# Altium schematic symbol library WE-GDT.SchLib: 9 symbols
Pins are listed as number, name and electrical type; pins without a type are passive.

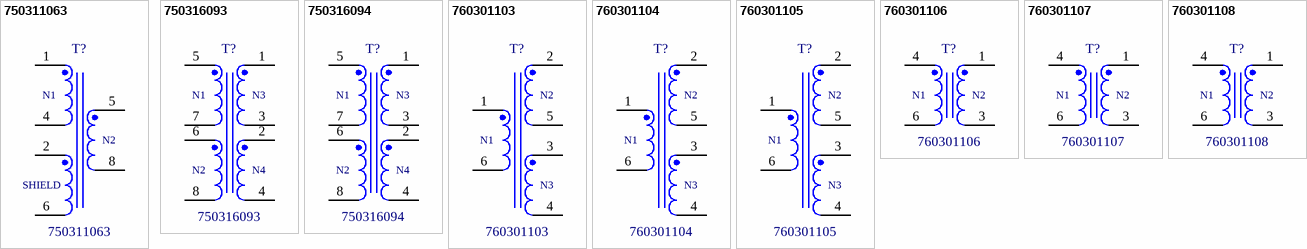
[diagram p0: symbols 750311063 to 760301108]

## 750311063
designator T?
WE-GDT SMT Gate-Drive-Transformer, ER9.5/5, 600μH, 1:1; Manufacturer: Wurth Elektronik; Insulation Test Voltage: 2000V (DC); Interwinding Capacitance: 12pF; Leakage Inductance: 1.4μH; Number of Windings: 2; Manufacturer Part Number: 750311063; Category: Gate Drive Transformers; Match Code: WE-GDT; ComponentLink1Description: Website Link; ComponentLink1URL: https://www.we-online.com/redexpert/article/750311063?ad; ComponentLink2Description: Datasheet Link; ComponentLink2URL: https://www.we-online.com/redexpert/spec/750311063?ad; Mount: Surface Mount; Min Operating Temperature: -40°C; Max Operating Temperature: 125°C; Packaging: Tape and Reel; Case/Size Code: ER9.5/5; Length: 12.07mm; Width: 10mm; Height: 5.97mm; Inductance: 600μH; Turns Ratio: 1:1
footprint WE-GDT_ER9.5/5
pins: 1, 2, 4, 5, 6, 8
text: N1; N2; SHIELD

## 750316093
designator T?
WE-GDT SMT Gate-Drive-Transformer, 1210, 1710μH, 1:1:2:2; Manufacturer: Wurth Elektronik; Case/Size Code: 1210; Insulation Test Voltage: 1500V (AC); Interwinding Capacitance: 100pF; Leakage Inductance: 1.5μH; Number of Windings: 4; Voltage-µSecond: 70μVs; Manufacturer Part Number: 750316093; Category: Gate Drive Transformers; Match Code: WE-GDT; ComponentLink1Description: Website Link; ComponentLink1URL: https://www.we-online.com/redexpert/article/750316093?ad; ComponentLink2Description: Datasheet Link; ComponentLink2URL: https://www.we-online.com/redexpert/spec/750316093?ad; Mount: Surface Mount; Min Operating Temperature: -40°C; Max Operating Temperature: 125°C; Packaging: Tape and Reel; Length: 12.98mm; Width: 10.26mm; Height: 5.64mm; Inductance: 1710μH; Turns Ratio: 1:1:2:2
footprint WE-GDT_1210
pins: 1, 2, 3, 4, 5, 6, 7, 8
text: N1; N3; N2; N4

## 750316094
designator T?
WE-GDT SMT Gate-Drive-Transformer, 1210, 261μH, 1:1:5:5; Manufacturer: Wurth Elektronik; Case/Size Code: 1210; Insulation Test Voltage: 1500V (AC); Interwinding Capacitance: 90pF; Leakage Inductance: 0.4μH; Number of Windings: 4; Voltage-µSecond: 28μVs; Manufacturer Part Number: 750316094; Category: Gate Drive Transformers; Match Code: WE-GDT; ComponentLink1Description: Website Link; ComponentLink1URL: https://www.we-online.com/redexpert/article/750316094?ad; ComponentLink2Description: Datasheet Link; ComponentLink2URL: https://www.we-online.com/redexpert/spec/750316094?ad; Mount: Surface Mount; Min Operating Temperature: -40°C; Max Operating Temperature: 125°C; Packaging: Tape and Reel; Length: 12.98mm; Width: 10.26mm; Height: 5.64mm; Inductance: 261μH; Turns Ratio: 1:1:5:5
footprint WE-GDT_1210
pins: 1, 2, 3, 4, 5, 6, 7, 8
text: N1; N3; N2; N4

## 760301103
designator T?
WE-GDT SMT Gate-Drive-Transformer, EP5, 350μH, 2.5:1:1; Manufacturer: Wurth Elektronik; Insulation Test Voltage: 1500V (DC); Interwinding Capacitance: 7pF; Leakage Inductance: 2.3μH; Number of Windings: 3; Voltage-µSecond: 29.4μVs; Manufacturer Part Number: 760301103; Category: Gate Drive Transformers; Match Code: WE-GDT; ComponentLink1Description: Website Link; ComponentLink1URL: https://www.we-online.com/redexpert/article/760301103?ad; ComponentLink2Description: Datasheet Link; ComponentLink2URL: https://www.we-online.com/redexpert/spec/760301103?ad; Mount: Surface Mount; Min Operating Temperature: -40°C; Max Operating Temperature: 125°C; Packaging: Tape and Reel; Case/Size Code: EP5; Length: 8.5mm; Width: 7mm; Height: 6mm; Inductance: 350μH; Turns Ratio: 2.5:1:1
footprint WE-GDT_EP5
pins: 1, 2, 3, 4, 5, 6
text: N2; N1; N3

## 760301104
designator T?
WE-GDT SMT Gate-Drive-Transformer, EP5, 330μH, 2:1:1; Manufacturer: Wurth Elektronik; Insulation Test Voltage: 1500V (DC); Interwinding Capacitance: 7pF; Leakage Inductance: 1.9μH; Number of Windings: 3; Voltage-µSecond: 28.6μVs; Manufacturer Part Number: 760301104; Category: Gate Drive Transformers; Match Code: WE-GDT; ComponentLink1Description: Website Link; ComponentLink1URL: https://www.we-online.com/redexpert/article/760301104?ad; ComponentLink2Description: Datasheet Link; ComponentLink2URL: https://www.we-online.com/redexpert/spec/760301104?ad; Mount: Surface Mount; Min Operating Temperature: -40°C; Max Operating Temperature: 125°C; Packaging: Tape and Reel; Case/Size Code: EP5; Length: 8.5mm; Width: 7mm; Height: 6mm; Inductance: 330μH; Turns Ratio: 2:1:1
footprint WE-GDT_EP5
pins: 1, 2, 3, 4, 5, 6
text: N2; N1; N3

## 760301105
designator T?
WE-GDT SMT Gate-Drive-Transformer, EP5, 260μH, 1:1:1; Manufacturer: Wurth Elektronik; Insulation Test Voltage: 1500V (DC); Interwinding Capacitance: 9pF; Leakage Inductance: 1.7μH; Number of Windings: 3; Voltage-µSecond: 25.2μVs; Manufacturer Part Number: 760301105; Category: Gate Drive Transformers; Match Code: WE-GDT; ComponentLink1Description: Website Link; ComponentLink1URL: https://www.we-online.com/redexpert/article/760301105?ad; ComponentLink2Description: Datasheet Link; ComponentLink2URL: https://www.we-online.com/redexpert/spec/760301105?ad; Mount: Surface Mount; Min Operating Temperature: -40°C; Max Operating Temperature: 125°C; Packaging: Tape and Reel; Case/Size Code: EP5; Length: 8.5mm; Width: 7mm; Height: 6mm; Inductance: 260μH; Turns Ratio: 1:1:1
footprint WE-GDT_EP5
pins: 1, 2, 3, 4, 5, 6
text: N2; N1; N3

## 760301106
designator T?
WE-GDT SMT Gate-Drive-Transformer, EP5, 370μH, 1:1; Manufacturer: Wurth Elektronik; Insulation Test Voltage: 1500V (DC); Interwinding Capacitance: 10pF; Leakage Inductance: 1.8μH; Number of Windings: 2; Voltage-µSecond: 30.2μVs; Manufacturer Part Number: 760301106; Category: Gate Drive Transformers; Match Code: WE-GDT; ComponentLink1Description: Website Link; ComponentLink1URL: https://www.we-online.com/redexpert/article/760301106?ad; ComponentLink2Description: Datasheet Link; ComponentLink2URL: https://www.we-online.com/redexpert/spec/760301106?ad; Mount: Surface Mount; Min Operating Temperature: -40°C; Max Operating Temperature: 125°C; Packaging: Tape and Reel; Case/Size Code: EP5; Length: 8.5mm; Width: 7mm; Height: 6mm; Inductance: 370μH; Turns Ratio: 1:1
footprint WE-GDT_EP5
pins: 1, 3, 4, 6
text: N1; N2

## 760301107
designator T?
WE-GDT SMT Gate-Drive-Transformer, EP5, 650μH, 1.5:1; Manufacturer: Wurth Elektronik; Insulation Test Voltage: 1500V (DC); Interwinding Capacitance: 9pF; Leakage Inductance: 2.9μH; Number of Windings: 2; Voltage-µSecond: 40.8μVs; Manufacturer Part Number: 760301107; Category: Gate Drive Transformers; Match Code: WE-GDT; ComponentLink1Description: Website Link; ComponentLink1URL: https://www.we-online.com/redexpert/article/760301107?ad; ComponentLink2Description: Datasheet Link; ComponentLink2URL: https://www.we-online.com/redexpert/spec/760301107?ad; Mount: Surface Mount; Min Operating Temperature: -40°C; Max Operating Temperature: 125°C; Packaging: Tape and Reel; Case/Size Code: EP5; Length: 8.5mm; Width: 7mm; Height: 6mm; Inductance: 650μH; Turns Ratio: 1.5:1
footprint WE-GDT_EP5
pins: 1, 3, 4, 6
text: N1; N2

## 760301108
designator T?
WE-GDT SMT Gate-Drive-Transformer, EP5, 460μH, 2.5:1; Manufacturer: Wurth Elektronik; Insulation Test Voltage: 1500V (DC); Interwinding Capacitance: 9pF; Leakage Inductance: 2.3μH; Number of Windings: 2; Voltage-µSecond: 33.6μVs; Manufacturer Part Number: 760301108; Category: Gate Drive Transformers; Match Code: WE-GDT; ComponentLink1Description: Website Link; ComponentLink1URL: https://www.we-online.com/redexpert/article/760301108?ad; ComponentLink2Description: Datasheet Link; ComponentLink2URL: https://www.we-online.com/redexpert/spec/760301108?ad; Mount: Surface Mount; Min Operating Temperature: -40°C; Max Operating Temperature: 125°C; Packaging: Tape and Reel; Case/Size Code: EP5; Length: 8.5mm; Width: 7mm; Height: 6mm; Inductance: 460μH; Turns Ratio: 2.5:1
footprint WE-GDT_EP5
pins: 1, 3, 4, 6
text: N1; N2